# EAGLE library part 750315371 (library Wurth Electronics Midcom Inc - EAGLE Lib V2-1)
Package Style: TOR-6P-HT4A Mounting: SMD Pins: 6 pins Bobbin: 250-1201 Best pinouts for production vary per application. Please contact Wurth Electronics Midcom, Inc. for assistance with your custom design. Website: Wurth Electronics Midcom <http://www.we-online.com/midcom> Contact us Wurth Electronics Midcom, Inc. 121 Airport Dr. Watertown, SD 57201 Phone: (605) 886-4385 Fax: (605) 886-4486 E-Mail: midcom@we-online.com
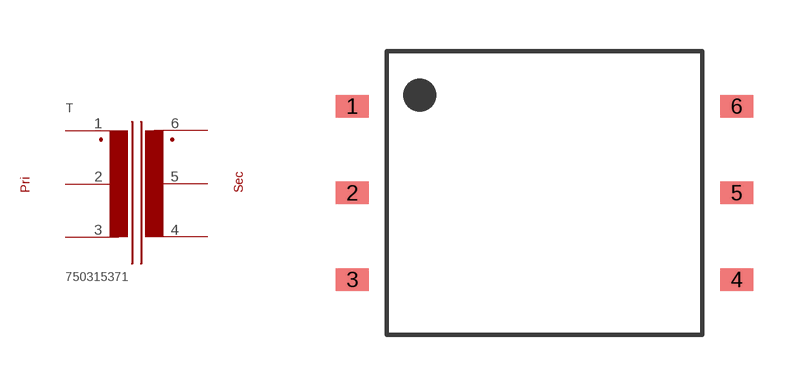
[diagram p5: symbol with the pads of TOR-6P-HT4A_SMD_6PIN_(1201); footprint TOR-6P-HT4A_SMD_6PIN_(1201)]

Designator prefix T

## 750315371  [TOR-6P-HT4A_SMD_6PIN_(1201)]
1  1  pas
2  2  pas
3  3  pas
4  4  pas
5  5  pas
6  6  pas

## Footprint TOR-6P-HT4A_SMD_6PIN_(1201) (pad centres in mm)
Package Style: TOR-6P-HT4A Mounting: SMD Pins: 6 Bobbin: 250-1201
smd 0.965 x 0.66: 1 -5.626,2.54; 2 -5.626,0; 3 -5.626,-2.54; 4 5.626,-2.54; 5 5.626,0; 6 5.626,2.54